# Altium footprint library PCB - DIODES - LED RGB 0606_1616 0.9MM.PcbLib: 1 footprints
Each footprint in its own frame and in the unit in brackets; x right, y up, seen from the top. Pads: shape width x height; smd on the part's side, far side on the other; paste and mask are expansions set on the pad; w line width, h text height; cw(c..) or ccw(c..) is an arc to the next point about the centre after c.
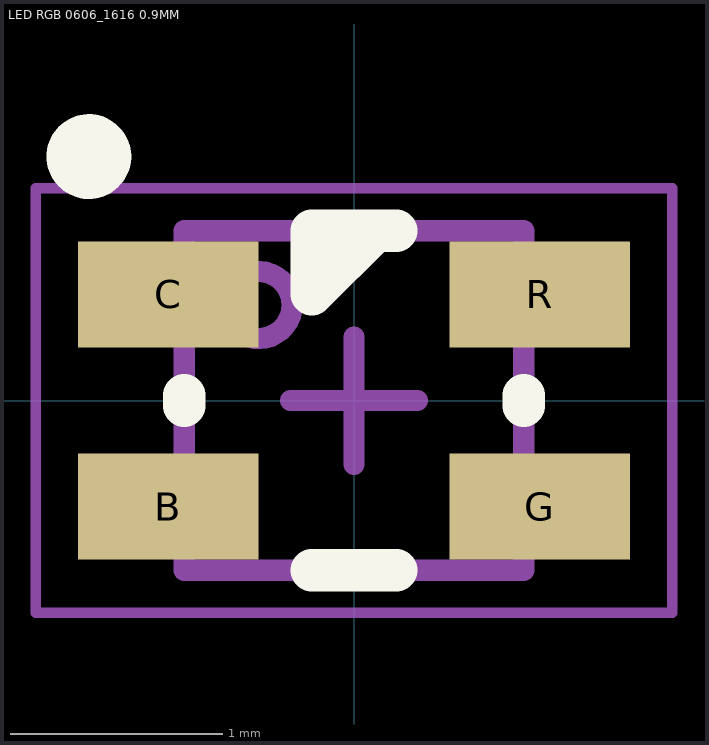
[diagram p0: the footprint, top view; thin cyan lines are the x and y axes]

## LED RGB 0606_1616 0.9MM [mm] "SMD RGB LED Indication, 4 Pads, Body 1.6x1.6mm"
height 0.9
pads (4):
  rect 0.85x0.5 smd: B(-0.875,-0.5) C(-0.875,0.5) G(0.875,-0.5) R(0.875,0.5)
Top Overlay:
  circle w0.2: c-1.25,1.15 r0.1
  lines w0.2: -0.8,-0.025 -0.8,0.025 ; -0.2,-0.8 0.2,-0.8 ; 0.1,0.8 -0.2,0.5 -0.2,0.8 0.2,0.8 ; 0.8,-0.025 0.8,0.025
Mechanical 13:
  circle w0.1: c-0.45,0.45 r0.158
  lines w0.1: -0.8,-0.8 -0.8,0.8 0.8,0.8 0.8,-0.8 -0.8,-0.8
Mechanical 15:
  lines w0.05: -1.5,-1 -1.5,1 1.5,1 1.5,-1 -1.5,-1
Mechanical 2 (Mech9):
  lines w0.1: -0.3,0 0,0 ; 0,-0.3 0,0 ; 0,0.3 0,0 ; 0.3,0 0,0
3D body "LED RGB 0606_1616 0.9MM LENS.STEP": height 0.72, standoff 0.25, extent -0.6,-0.8 0.6,0.8
3D body "LED RGB 0606_1616 0.9MM BODY.STEP": height 0.35, standoff -0.01, extent -0.8,-0.8 0.8,0.8